# Altium schematic symbol library PD85004_PP_PA.SchLib: 10 symbols
Pins are listed as number, name and electrical type; pins without a type are passive.

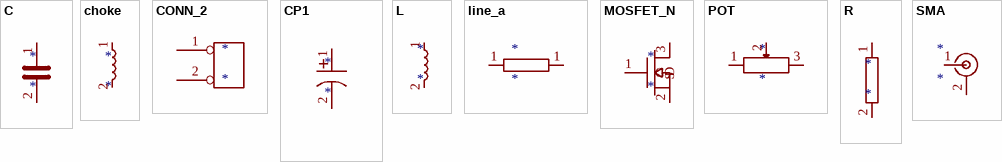
[diagram p0: symbols C to SMA]

## C
designator *
footprint 6-0805_L (Chip Resistor, Body 2.0x1.2mm, IPC High Density)
pins: 1, 2

## choke
designator *
footprint Choke
pins: 1, 2

## CONN_2
designator *
footprint con1
pins: 1 P1, 2 PM

## CP1
designator *
footprint CP
pins: 1, 2
text: +

## L
designator *
footprint L
pins: 1, 2

## line_a
designator *
footprint line_a
pins: 1, 1

## MOSFET_N
designator *
footprint pd85004
pins: 1 G, 2 S, 3 D

## POT
designator *
pins: 1, 2, 3

## R
designator *
footprint r
pins: 1, 2

## SMA
designator *
footprint sma
pins: 1 RF, 2 GND